# EAGLE library part M25P16 (library balmer)
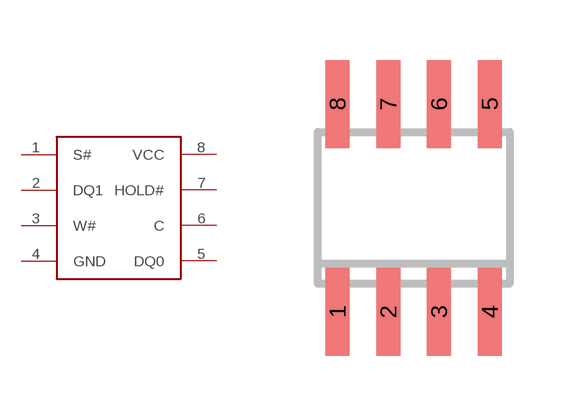
[diagram p7: symbol with the pads of SO8; footprint SO8]

Designator prefix -

## M25P16  [SO8]
1  S#
2  DQ1  out
3  W#  in
4  GND  pwr
5  DQ0  in
6  C
7  HOLD#  in
8  VCC  pwr

## Footprint SO8 (pad centres in mm)
8-Lead Small Outline IC (SO-8) Source: http://www.analog.com/UploadedFiles/Data_Sheets/703465986AD8611_2_0.pdf
smd 0.6 x 2.2: 1 -1.905,-2.6; 2 -0.635,-2.6; 3 0.635,-2.6; 4 1.905,-2.6; 5 1.905,2.6; 6 0.635,2.6; 7 -0.635,2.6; 8 -1.905,2.6